# EAGLE library part FDC6420C (library LAB-PPS330D)
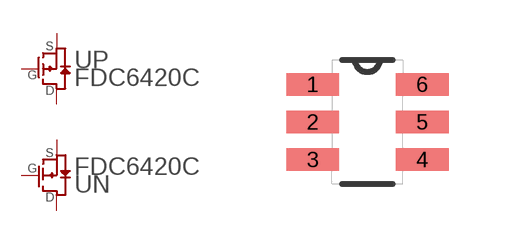
[diagram p1: symbol with the pads of SOT95P270X145-6N; footprint SOT95P270X145-6N]

Designator prefix -; gates P=PMOS N=NMOS

## FDC6420C  [SOT95P270X145-6N]
1  N:G
2  P:S
3  P:G
4  P:D
5  N:S
6  N:D

## Footprint SOT95P270X145-6N (pad centres in mm)
smd 1.321 x 0.559: 1 -1.372,0.94; 2 -1.372,0; 3 -1.372,-0.94; 4 1.372,-0.94; 5 1.372,0; 6 1.372,0.94